# Altium footprint library SOT_package.PcbLib: 11 footprints
Each footprint in its own frame and in the unit in brackets; x right, y up, seen from the top. Pads: shape width x height; smd on the part's side, far side on the other; paste and mask are expansions set on the pad; w line width, h text height; cw(c..) or ccw(c..) is an arc to the next point about the centre after c.
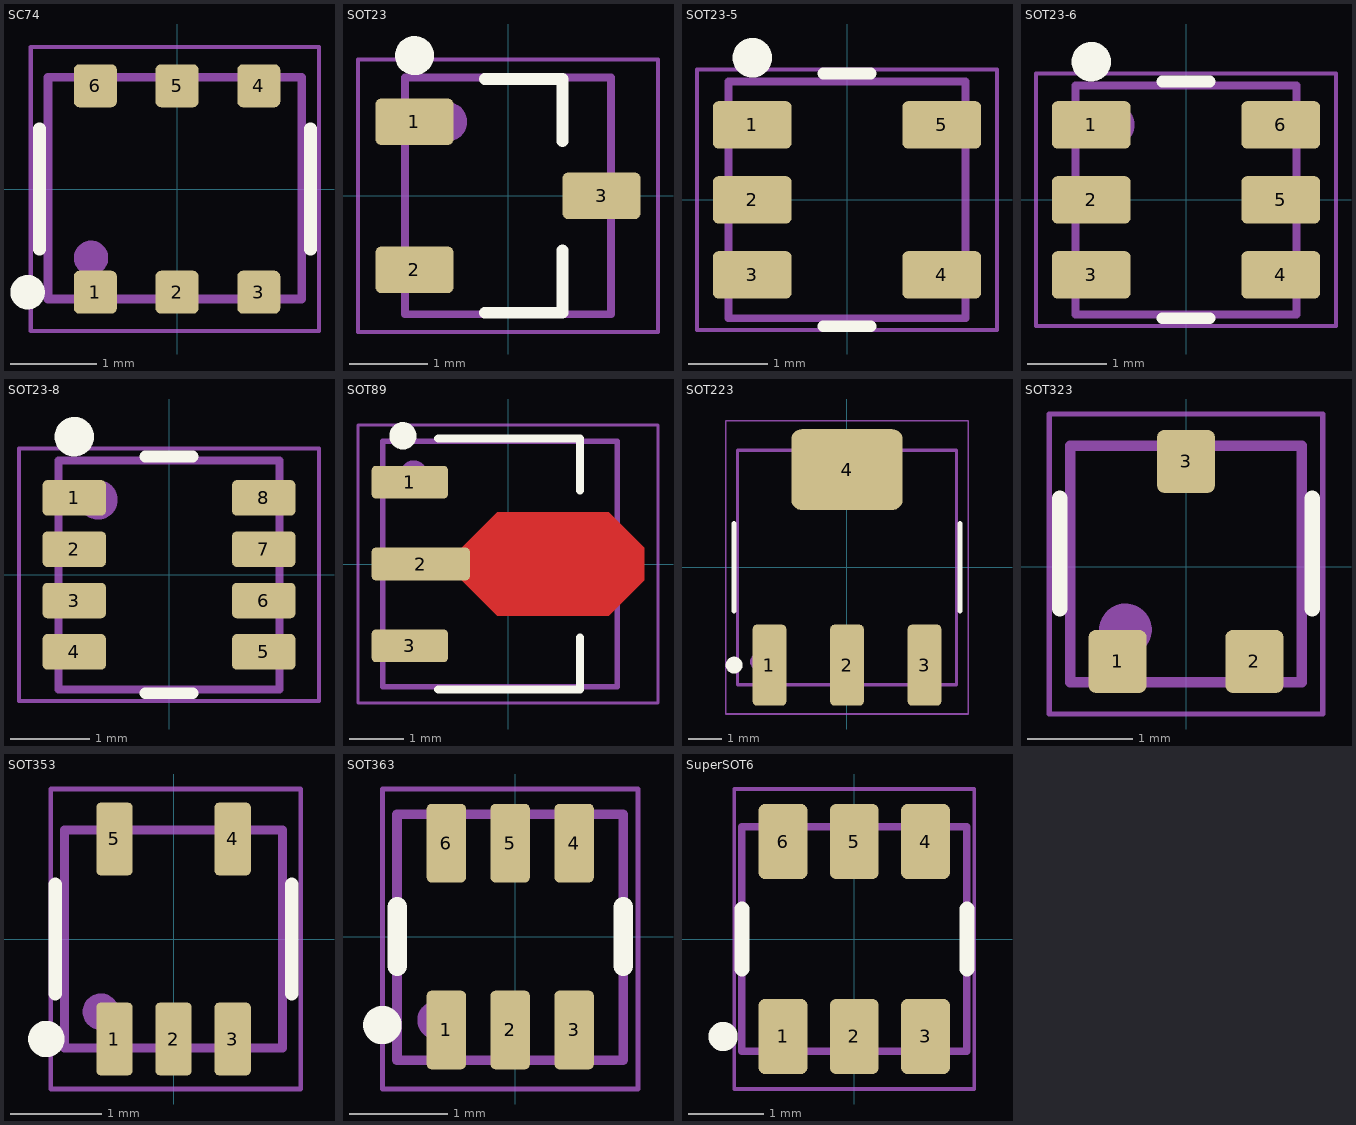
[diagram p0: the footprints below, top view; thin cyan lines are the x and y axes]

## SC74 [mm] "Surface mounted, 6 pin package (SOT457)"
height 1.45
pads (6):
  rrect25% 0.5x0.5 smd: 1(-0.95,-1.2) 2(0,-1.2) 3(0.95,-1.2) 4(0.95,1.2) 5(0,1.2) 6(-0.95,1.2)
Top Overlay:
  circle w0.2: c-1.737,-1.2 r0.1
  lines w0.15: -1.6,-0.7 -1.6,0.7 ; 1.55,-0.7 1.55,0.7
Top Assembly:
  circle w0.2: c-1,-0.8 r0.1
  lines w0.1: -1.5,-1.279 -1.5,1.3 1.45,1.3 1.45,-1.279 -1.5,-1.279
  text ".Designator" at -4.998,-0.333 h1
Top Courtyard (Mech15):
  lines w0.05: -1.7,-1.65 1.65,-1.65 1.65,1.65 -1.7,1.65 -1.7,-1.65
3D body "SC-74-6.stp": height 1.14, standoff 0.04, extent -1.45,-1.3 1.45,1.3

## SOT23 [mm] "SOT23, 3-Leads, Body 3,0x2,6mm (max), Pitch 0,95mm, IPC Medium Density"
height 1.1
pads (3):
  rrect25% 1x0.6 smd: 1(-1.2,0.95) 2(-1.2,-0.95) 3(1.2,0)
Top Overlay:
  circle w0.25: c-1.2,1.8 r0.125
  lines w0.15: -0.3,-1.5 0.7,-1.5 0.7,-0.7 ; -0.3,1.5 0.7,1.5 0.7,0.7
Top Assembly:
  circle w0.25: c-0.775,0.95 r0.125
  lines w0.1: -1.32,-1.52 1.32,-1.52 1.32,1.52 -1.32,1.52 -1.32,-1.52
  text ".Designator" at -4.998,-0.333 h1
Top Courtyard (Mech15):
  lines w0.05: -1.925,-1.75 -1.925,1.75 1.925,1.75 1.925,-1.75 -1.925,-1.75
3D body "SOT95P237X112-3N.step": height 1.12, standoff 0, extent -1.32,-1.52 1.32,1.52

## SOT23-5 [mm] "SOT23, 5-Leads, Body 2,90x2,80mm, Pitch 0,95mm, IPC Medium Density"
height 1.45
pads (5):
  rrect25% 1x0.6 smd: 1(-1.2,0.95) 2(-1.2,0) 3(-1.2,-0.95) 4(1.2,-0.95) 5(1.2,0.95)
Top Overlay:
  circle w0.25: c-1.2,1.8 r0.125
  lines w0.15: -0.3,-1.6 0.3,-1.6 ; -0.3,1.6 0.3,1.6
Top Assembly:
  circle w0.25: c-1,1 r0.125
  lines w0.1: -1.5,-1.5 1.5,-1.5 1.5,1.5 -1.5,1.5 -1.5,-1.5
  text ".Designator" at -4.998,-0.333 h1
Top Courtyard (Mech15):
  lines w0.05: -1.9,-1.65 1.9,-1.65 1.9,1.65 -1.9,1.65 -1.9,-1.65
3D body "SOT23-5-1.step": height 1.3, standoff 0, extent -1.5,-1.5 1.5,1.5

## SOT23-6 [mm] "SOT23, 6-Leads, Body 2,90x2,45mm, Pitch 0,95mm, IPC Medium Density"
height 1.1
pads (6):
  rrect25% 1x0.6 smd: 1(-1.2,0.95) 2(-1.2,0) 3(-1.2,-0.95) 4(1.2,-0.95) 5(1.2,0) 6(1.2,0.95)
Top Overlay:
  circle w0.25: c-1.2,1.75 r0.125
  lines w0.15: -0.3,-1.5 0.3,-1.5 ; -0.3,1.5 0.3,1.5
Top Assembly:
  circle w0.25: c-0.9,0.95 r0.125
  lines w0.1: -1.4,-1.45 -1.4,1.45 1.4,1.45 1.4,-1.45 -1.4,-1.45
  text ".Designator" at -4.998,-0.333 h1
Top Courtyard (Mech15):
  lines w0.05: -1.9,-1.6 -1.9,1.6 1.9,1.6 1.9,-1.6 -1.9,-1.6
3D body "User Library-SOT23-6-2.STEP": height 1.45, standoff 0, extent -1.4,-1.45 1.4,1.45

## SOT23-8 [mm] "SOT23, 8-Leads, Body 2,90x2,45mm, Pitch 0,65mm, IPC Medium Density"
height 1.1
pads (8):
  rrect25% 0.8x0.45 smd: 1(-1.2,0.975) 2(-1.2,0.325) 3(-1.2,-0.325) 4(-1.2,-0.975) 5(1.2,-0.975) 6(1.2,-0.325) 7(1.2,0.325) 8(1.2,0.975)
Top Overlay:
  circle w0.25: c-1.2,1.75 r0.125
  lines w0.15: -0.3,-1.5 0.3,-1.5 ; -0.3,1.5 0.3,1.5
Top Assembly:
  circle w0.25: c-0.9,0.95 r0.125
  lines w0.1: -1.4,-1.45 1.4,-1.45 1.4,1.45 -1.4,1.45 -1.4,-1.45
  text ".Designator" at -4.998,-0.333 h1
Top Courtyard (Mech15):
  lines w0.05: -1.9,-1.6 1.9,-1.6 1.9,1.6 -1.9,1.6 -1.9,-1.6
3D body "User Library-sot238.STEP": height 1.2, standoff 0, extent -1.4,-1.445 1.4,1.495

## SOT89 [mm] "SOT89, 3-Leads, Body 4,50x2,45mm, Pitch 1,50mm, Lead Span 4,1mm, IPC Medium Density"
height 1.6
pads (3):
  rrect25% 1.4x0.6 smd: 1(-1.8,1.5) 3(-1.8,-1.5)
  rrect25% 1.8x0.6 smd: 2(-1.6,0)
Top Layer:
  region: -0.85,0.3 -0.2,0.95 1.85,0.95 2.5,0.3 2.5,-0.3 1.85,-0.95 -0.2,-0.95 -0.85,-0.3
Top Overlay:
  circle w0.25: c-1.927,2.35 r0.125
  lines w0.15: -1.278,-2.3 1.322,-2.3 1.322,-1.35 ; -1.278,2.3 1.322,2.3 1.322,1.35
Top Assembly:
  circle w0.25: c-1.725,1.65 r0.125
  lines w0.1: -2.3,-2.25 -2.3,2.25 2,2.25 2,-2.25 -2.3,-2.25
  text ".Designator" at -4.998,-0.333 h1
Top Courtyard (Mech15):
  lines w0.05: -2.75,-2.55 2.75,-2.55 2.75,2.55 -2.75,2.55 -2.75,-2.55
3D body "SOT-89.step": height 1.51, standoff 0, extent -2.3,-2.25 2,2.25

## SOT223 [mm] "SOT223, 4-Leads, Body 6,50x7,00mm (avg), Pitch 2,30mm, IPC Medium Density"
height 1.8
pads (4):
  rrect25% 1x2.4 smd: 1(-2.3,-2.9) 2(0,-2.9) 3(2.3,-2.9)
  rrect25% 3.3x2.4 smd: 4(0,2.9)
Top Overlay:
  circle w0.25: c-3.35,-2.9 r0.125
  lines w0.15: -3.35,-1.3 -3.35,1.3 ; 3.35,-1.3 3.35,1.3
Top Assembly:
  circle w0.25: c-2.625,-2.8 r0.125
  lines w0.1: -3.25,-3.48 -3.25,3.48 3.25,3.48 3.25,-3.48 -3.25,-3.48
  text ".Designator" at -4.998,-0.333 h1
Top Courtyard (Mech15):
  lines w0.05: -3.6,-4.35 3.6,-4.35 3.6,4.35 -3.6,4.35 -3.6,-4.35
3D body "SOT-223-3.step": height 1.65, standoff -0.03, extent -3.25,-3.48 3.25,3.48

## SOT323 [mm]
pads (3):
  rrect25% 0.55x0.6 smd: 1(-0.65,-0.9) 2(0.65,-0.9) 3(0,1)
Top Overlay:
  lines w0.15: -1.2,-0.4 -1.2,0.65 ; 1.2,-0.4 1.2,0.65
Top Assembly:
  circle w0.25: c-0.575,-0.6 r0.125
  lines w0.1: -1.1,-1.1 -1.1,1.15 1.1,1.15 1.1,-1.1 -1.1,-1.1
  text ".Designator" at -4.998,-0.333 h1
Top Courtyard (Mech15):
  lines w0.05: -1.3,-1.4 -1.3,1.45 1.3,1.45 1.3,-1.4 -1.3,-1.4
3D body "User Library-SOT323 (SC70-3)-1.STEP": height 1.1, standoff 0, extent -1.1,-1.1 1.1,1.145

## SOT353 [mm]
height 1
pads (5):
  rrect25% 0.4x0.8 smd: 1(-0.65,-1.1) 2(0,-1.1) 3(0.65,-1.1) 4(0.65,1.1) 5(-0.65,1.1)
Top Overlay:
  circle w0.2: c-1.4,-1.1 r0.1
  lines w0.15: -1.3,-0.6 -1.3,0.6 ; 1.3,-0.6 1.3,0.6
Top Assembly:
  circle w0.2: c-0.8,-0.8 r0.1
  lines w0.1: -1.2,-1.2 -1.2,1.2 1.2,1.2 1.2,-1.2 -1.2,-1.2
  text ".Designator" at -4.998,-0.333 h1
Top Courtyard (Mech15):
  lines w0.05: -1.35,-1.65 -1.35,1.65 1.4,1.65 1.4,-1.65 -1.35,-1.65
3D body "SOT363-2.step": height 1.1, standoff 0, extent -1.1,-1.2 1.1,1.2

## SOT363 [mm]
pads (6):
  rrect25% 0.4x0.8 smd: 1(-0.7,-0.95) 2(-0.05,-0.95) 3(0.6,-0.95) 4(0.6,0.95) 5(-0.05,0.95) 6(-0.7,0.95)
Top Overlay:
  circle w0.3: c-1.35,-0.9 r0.045
  lines w0.2: -1.2,-0.3 -1.2,0.3 ; 1.1,-0.3 1.1,0.3
Top Assembly:
  circle w0.3: c-0.8,-0.85 r0.045
  lines w0.1: -1.2,-1.257 -1.2,1.243 1.1,1.243 1.1,-1.257 -1.2,-1.257
  text ".Designator" at -4.998,-0.333 h1
Top Courtyard (Mech15):
  lines w0.05: -1.35,-1.55 -1.35,1.5 1.25,1.5 1.25,-1.55 -1.35,-1.55
3D body "SOT363-2.step": height 1.1, standoff 0, extent -1.15,-1.2 1.05,1.2

## SuperSOT6 [mm]
pads (6):
  rrect25% 0.65x1 smd: 1(-0.95,-1.3) 2(0,-1.3) 3(0.95,-1.3) 4(0.95,1.3) 5(0,1.3) 6(-0.95,1.3)
Top Overlay:
  circle w0.3: c-1.75,-1.3 r0.045
  lines w0.2: -1.5,-0.4 -1.5,0.4 ; 1.5,-0.4 1.5,0.4
Top Assembly:
  circle w0.3: c-0.995,-1.05 r0.045
  lines w0.1: -1.5,-1.5 1.5,-1.5 1.5,1.5 -1.5,1.5 -1.5,-1.5
  text ".Designator" at -4.998,-0.333 h1
Top Courtyard (Mech15):
  lines w0.05: -1.6,-2 -1.6,2 1.5,2 1.6,2 1.6,-2 -1.6,-2
3D body "User Library-SSOT-6.STEP": height 1.05, standoff 0, extent -1.5,-1.5 1.5,1.5